# EAGLE library part TPS54302 (library my-eagle-lib)
The TPS54308 is a 4.5-V to 28-V input voltage range, 3-A synchronous buck converter. The device includes two integrated switching FETs, internal loop compensation, and 5-ms internal soft start to reduce component count. By integrating the MOSFETs and employing the SOT-23 package, the TPS54308 achieves high power density and offers a small footprint on the PCB. The TPS54308 operates in force continuous conduction mode (FCCM) during light load conditions. The switching frequency is maintained at an almost constant level over entire load range. Cycle-by-cycle current limit in both high-side MOSFETs protects the converter in an overload condition and is enhanced by a low-side MOSFET freewheeling current limit, which prevents current runaway. Hiccup mode protection is triggered if the overcurrent condition has persisted for longer than the present time. Datasheet: https://www.ti.com/lit/ds/symlink/tps54308.pdf
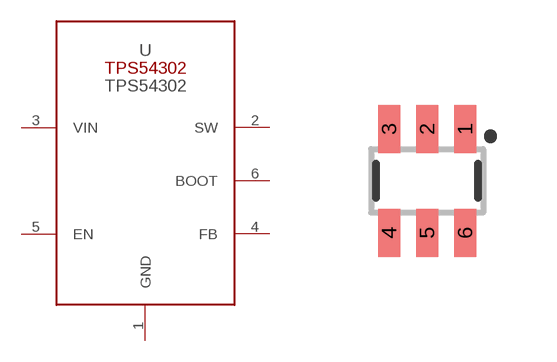
[diagram p6: symbol with the pads of SOT23-6; footprint SOT23-6]

Designator prefix -

## TPS54302  [SOT23-6]
1  GND
2  SW
3  VIN
4  FB
5  EN
6  BOOT

## Footprint SOT23-6 (pad centres in mm)
SOT23-6 Specifications: Pin count: 6 Example device(s): MCP4725
smd 0.55 x 1.2: 1 0.95,1.3; 2 0,1.3; 3 -0.95,1.3; 4 -0.95,-1.3; 5 0,-1.3; 6 0.95,-1.3